# Altium schematic symbol library SCH - POWER - LINEAR VREG - TI LP3966ES-1.8.SchLib: 1 symbol
Pins are listed as number, name and electrical type; pins without a type are passive.

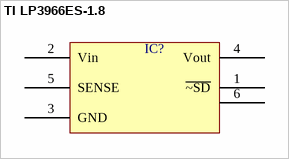
[diagram p0: symbol TI LP3966ES-1.8]

## TI LP3966ES-1.8
designator IC?  (value not drawn)
pins: 1 ~{~SD}, 2 Vin, 3 GND, 4 Vout, 5 SENSE, 6